# Altium schematic symbol library SN74CB3Q3251PWR.SchLib: 1 symbol
Pins are listed as number, name and electrical type; pins without a type are passive.

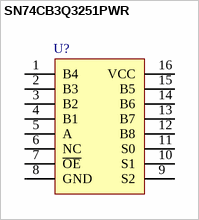
[diagram p0: symbol SN74CB3Q3251PWR]

## SN74CB3Q3251PWR
designator U?, comment OK  (value not drawn)
1-OF-8 FET MULTIPLEXER/DEMULTIPLEXER 2.5-V/3.3-V
pins: 1 B4, 2 B3, 3 B2, 4 B1, 5 A, 6 NC, 7 ~{OE}, 8 GND, 9 S2, 10 S1, 11 S0, 12 B8, 13 B7, 14 B6, 15 B5, 16 VCC (power)